# Altium schematic symbol library Schlib1.SchLib: 2 symbols
Pins are listed as number, name and electrical type; pins without a type are passive.

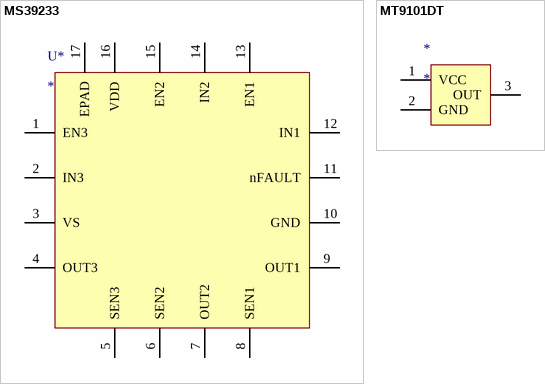
[diagram p0: symbols MS39233 to MT9101DT]

## MS39233
designator U*
pins: 1 EN3, 2 IN3, 3 VS, 4 OUT3, 5 SEN3, 6 SEN2, 7 OUT2, 8 SEN1, 9 OUT1, 10 GND, 11 nFAULT, 12 IN1, 13 EN1, 14 IN2, 15 EN2, 16 VDD, 17 EPAD

## MT9101DT
designator *
pins: 1 VCC, 2 GND, 3 OUT